# EAGLE library part AP63203WU-7 (library I'mRADIOactive)
3.3V Switching Step-Down Power Regulator, Max Input 32V
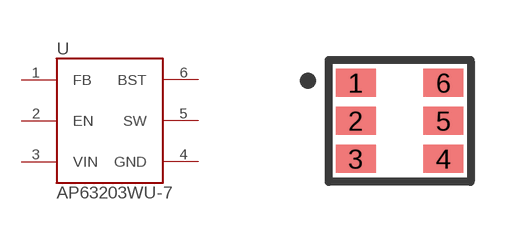
[diagram p2: symbol with the pads of TSOT-23-6; footprint TSOT-23-6]

Designator prefix U

## AP63203WU-7 (DKPN: AP63203WU-7DICT-ND)  [TSOT-23-6]
1  FB  pas
2  EN  pas
3  VIN  pas
4  GND  pas
5  SW  pas
6  BST  pas

## Footprint TSOT-23-6 (pad centres in mm)
Datasheet <https://www.diodes.com/assets/Datasheets/AP63200-AP63201-AP63203-AP63205.pdf>
smd 1 x 0.7: 1 -1.099,0.95; 2 -1.099,0; 3 -1.099,-0.95; 4 1.099,-0.95; 5 1.099,0; 6 1.099,0.95